# EAGLE library part 9-AXIS_IMU (library quadparts-nick)
LSM9DS1TR 9-Axis IMU
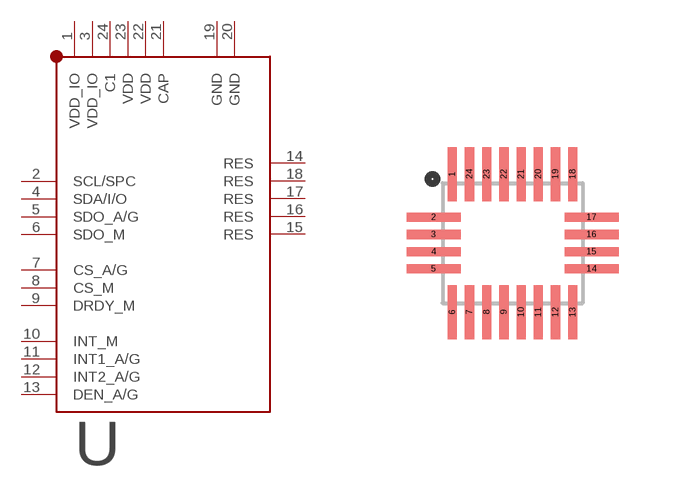
[diagram p0: symbol with the pads of 9-AXIS_IMU; footprint 9-AXIS_IMU]

Designator prefix -

## 9-AXIS_IMU (CREATOR: Nicholas Deagon; DIST: Digikey; DISTPN: 497-14946-1-ND; MFR: STMicroelectronics; MPN: LSM9DS1TR)  [9-AXIS_IMU]
1  VDD_IO
2  SCL/SPC
3  VDD_IO
4  SDA/I/O
5  SDO_A/G
6  SDO_M
7  CS_A/G
8  CS_M
9  DRDY_M
10  INT_M
11  INT1_A/G
12  INT2_A/G
13  DEN_A/G
14  RES
15  RES
16  RES
17  RES
18  RES
19  GND
20  GND
21  CAP
22  VDD
23  VDD
24  C1

## Footprint 9-AXIS_IMU (pad centres in mm)
smd 0.23 x 1.35: 1 -1.505,1.725; 6 -1.505,-1.725; 7 -1.075,-1.725; 8 -0.645,-1.725; 9 -0.215,-1.725; 10 0.215,-1.725; 11 0.645,-1.725; 12 1.075,-1.725; 13 1.505,-1.725; 18 1.505,1.725; 19 1.075,1.725; 20 0.645,1.725; 21 0.215,1.725; 22 -0.215,1.725; 23 -0.645,1.725; 24 -1.075,1.725
smd 1.35 x 0.23: 2 -1.975,0.645; 3 -1.975,0.215; 4 -1.975,-0.215; 5 -1.975,-0.645; 14 1.975,-0.645; 15 1.975,-0.215; 16 1.975,0.215; 17 1.975,0.645